# Altium schematic symbol library SCH - OPAMP - TI OPA2835 RUN.SchLib: 1 symbol
Pins are listed as number, name and electrical type; pins without a type are passive.

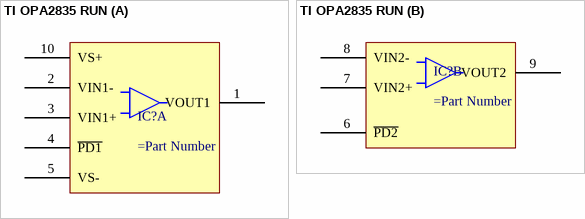
[diagram p0: symbol TI OPA2835 RUN]

## TI OPA2835 RUN
designator IC?
part A pins: 1 VOUT1, 2 VIN1-, 3 VIN1+, 4 ~{PD1}, 5 VS-, 10 VS+
part B pins: 6 ~{PD2}, 7 VIN2+, 8 VIN2-, 9 VOUT2